# Altium schematic symbol library P9221.SchLib: 1 symbol
Pins are listed as number, name and electrical type; pins without a type are passive.

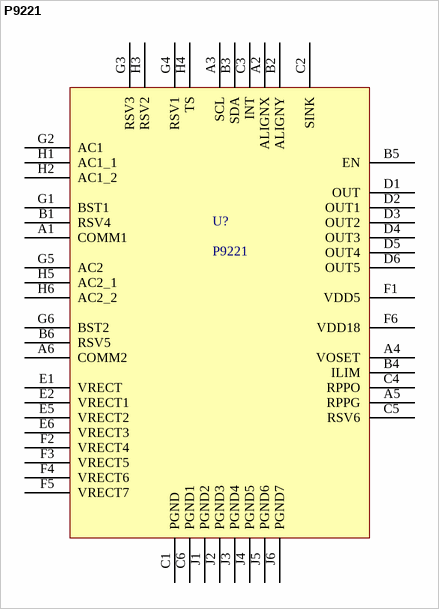
[diagram p0: symbol P9221]

## P9221
designator U?
footprint BGA52C40P6X9_264X394X65 (BGA, 52-Leads, Body 2.64x3.94mmx0.65mm, Pitch 0.40mm)
pins: A1 COMM1, A2 ALIGNX, A3 SCL, A4 VOSET, A5 RPPG, A6 COMM2, B1 RSV4, B2 ALIGNY, B3 SDA, B4 ILIM, B5 EN, B6 RSV5, C1 PGND, C2 SINK, C3 INT, C4 RPPO, C5 RSV6, C6 PGND1, D1 OUT, D2 OUT1, D3 OUT2, D4 OUT3, D5 OUT4, D6 OUT5, E1 VRECT, E2 VRECT1, E5 VRECT2, E6 VRECT3, F1 VDD5, F2 VRECT4, F3 VRECT5, F4 VRECT6, F5 VRECT7, F6 VDD18, G1 BST1, G2 AC1, G3 RSV3, G4 RSV1, G5 AC2, G6 BST2, H1 AC1_1, H2 AC1_2, H3 RSV2, H4 TS, H5 AC2_1, H6 AC2_2, J1 PGND2, J2 PGND3, J3 PGND4, J4 PGND5, J5 PGND6, J6 PGND7